# Altium footprint library CPAV.PcbLib: 150 footprints (part 8 of 10)
Each footprint in its own frame and in the unit in brackets; x right, y up, seen from the top. Pads: shape width x height; smd on the part's side, far side on the other; paste and mask are expansions set on the pad; w line width, h text height; cw(c..) or ccw(c..) is an arc to the next point about the centre after c.
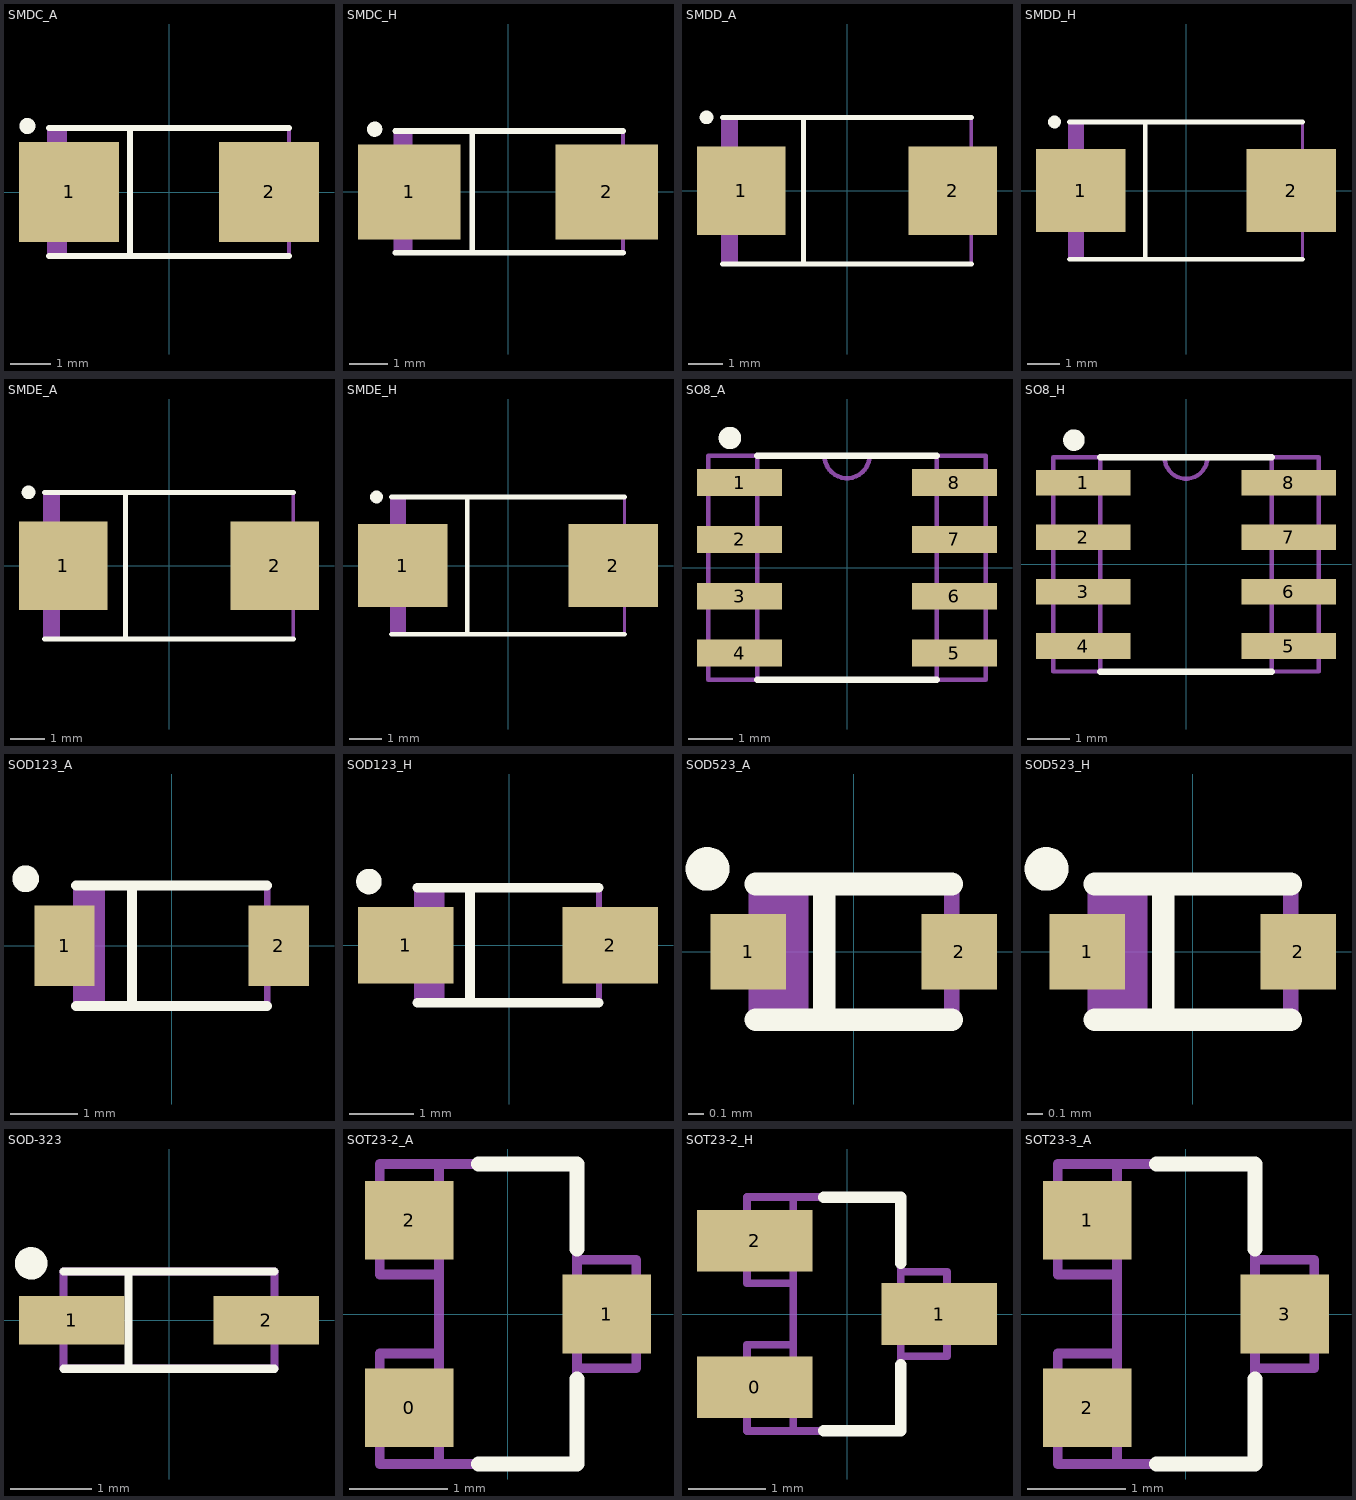
[diagram p7: the footprints below, top view; thin cyan lines are the x and y axes]

## SMDC_A [mm]
height 2.5
pads (2):
  rect 2.5x2.5 smd: 1(-2.5,0) 2(2.5,0)
Top Overlay:
  circle w0.2: c-3.54,1.65 r0.1
  lines w0.15: -3,-1.6 3,-1.6 ; -3,1.6 3,1.6 ; -0.97,-1.6 -0.97,1.6
Mechanical 7:
  lines w0.1: -2.9,-1.6 -2.9,1.6 ; -2.8,-1.6 -2.8,1.6 ; -2.7,-1.6 -2.7,1.6 ; -2.6,-1.6 -2.6,1.6 ; -3,-1.6 -3,1.6 3,1.6 3,-1.6 -3,-1.6
Mechanical 10:
  text ".Comment" at -0.47,-2.28 h0.6
  text ".Designator" at -0.6,1.87 h0.8
3D body: height 2.5, standoff 0, extent -3,-1.6 3,1.6

## SMDC_H [mm]
height 2.5
pads (2):
  rect 2.7x2.5 smd: 1(-2.6,0) 2(2.6,0)
Top Overlay:
  circle w0.2: c-3.51,1.65 r0.1
  lines w0.15: -2.97,-1.6 3.03,-1.6 ; -2.97,1.6 3.03,1.6 ; -0.94,-1.6 -0.94,1.6
Mechanical 7:
  lines w0.1: -2.87,-1.6 -2.87,1.6 ; -2.77,-1.6 -2.77,1.6 ; -2.67,-1.6 -2.67,1.6 ; -2.57,-1.6 -2.57,1.6 ; -2.97,-1.6 3.03,-1.6 3.03,1.6 -2.97,1.6 -2.97,-1.6
Mechanical 10:
  text ".Designator" at -0.6,1.89 h0.8
  text ".Comment" at -0.7,-2.3 h0.6
3D body: height 2.5, standoff 0, extent -2.97,-1.6 3.03,1.6

## SMDD_A [mm]
height 2.8
pads (2):
  rect 2.6x2.6 smd: 1(-3.1,0) 2(3.1,0)
Top Overlay:
  circle w0.2: c-4.12,2.15 r0.1
  lines w0.15: -3.65,-2.15 3.65,-2.15 ; -3.65,2.15 3.65,2.15 ; -1.28,-2.15 -1.28,2.15
Mechanical 7:
  lines w0.1: -3.55,-2.15 -3.55,2.15 ; -3.45,-2.15 -3.45,2.15 ; -3.35,-2.15 -3.35,2.15 ; -3.25,-2.15 -3.25,2.15 ; -3.65,-2.15 -3.65,2.15 3.65,2.15 3.65,-2.15 -3.65,-2.15
Mechanical 10:
  text ".Comment" at -0.9,-2.91 h0.6
  text ".Designator" at -0.84,2.54 h0.8
3D body: height 2.8, standoff 0, extent -3.65,-2.15 3.65,2.15

## SMDD_H [mm]
height 2.8
pads (2):
  rect 2.8x2.6 smd: 1(-3.3,0) 2(3.3,0)
Top Overlay:
  circle w0.2: c-4.12,2.15 r0.1
  lines w0.15: -3.65,-2.15 3.65,-2.15 ; -3.65,2.15 3.65,2.15 ; -1.28,-2.15 -1.28,2.15
Mechanical 7:
  lines w0.1: -3.55,-2.15 -3.55,2.15 ; -3.45,-2.15 -3.45,2.15 ; -3.35,-2.15 -3.35,2.15 ; -3.25,-2.15 -3.25,2.15 ; -3.65,-2.15 -3.65,2.15 3.65,2.15 3.65,-2.15 -3.65,-2.15
Mechanical 10:
  text ".Comment" at -0.83,-2.85 h0.6
  text ".Designator" at -0.84,2.54 h0.8
3D body: height 2.8, standoff 0, extent -3.65,-2.15 3.65,2.15

## SMDE_A [mm]
height 4
pads (2):
  rect 2.6x2.6 smd: 1(-3.1,0) 2(3.1,0)
Top Overlay:
  circle w0.2: c-4.12,2.15 r0.1
  lines w0.15: -3.65,-2.15 3.65,-2.15 ; -3.65,2.15 3.65,2.15 ; -1.28,-2.15 -1.28,2.15
Mechanical 7:
  lines w0.1: -3.55,-2.15 -3.55,2.15 ; -3.45,-2.15 -3.45,2.15 ; -3.35,-2.15 -3.35,2.15 ; -3.25,-2.15 -3.25,2.15 ; -3.65,-2.15 3.65,-2.15 3.65,2.15 -3.65,2.15 -3.65,-2.15
Mechanical 10:
  text ".Designator" at -0.84,2.54 h0.8
  text ".Comment" at -0.78,-2.82 h0.6
3D body: height 4, standoff 0, extent -3.65,-2.15 3.65,2.15

## SMDE_H [mm]
height 4
pads (2):
  rect 2.8x2.6 smd: 1(-3.3,0) 2(3.3,0)
Top Overlay:
  circle w0.2: c-4.12,2.15 r0.1
  lines w0.15: -3.65,-2.15 3.65,-2.15 ; -3.65,2.15 3.65,2.15 ; -1.28,-2.15 -1.28,2.15
Mechanical 7:
  lines w0.1: -3.55,-2.15 -3.55,2.15 ; -3.45,-2.15 -3.45,2.15 ; -3.35,-2.15 -3.35,2.15 ; -3.25,-2.15 -3.25,2.15 ; -3.65,-2.15 3.65,-2.15 3.65,2.15 -3.65,2.15 -3.65,-2.15
Mechanical 10:
  text ".Designator" at -0.84,2.54 h0.8
  text ".Comment" at -0.82,-2.87 h0.6
3D body: height 4, standoff 0, extent -3.65,-2.15 3.65,2.15

## SO8_A [mm]
height 1.75
pads (8):
  rect 1.9x0.6 smd: 1(-2.4,1.905) 2(-2.4,0.635) 3(-2.4,-0.635) 4(-2.4,-1.905) 5(2.4,-1.905) 6(2.4,-0.635) 7(2.4,0.635) 8(2.4,1.905)
Top Overlay:
  circle w0.25: c-2.615,2.9 r0.125
  lines w0.15: -2,-2.5 2,-2.5 ; -2,2.5 2,2.5
Mechanical 7:
  lines w0.1: -2,-2.5 -2,2.5 ; -0.5,2.5 ccw(c0,2.5) 0.5,2.5 ; 2,-2.5 2,2.5 ; -3.1,-2.5 3.1,-2.5 3.1,2.5 -3.1,2.5 -3.1,-2.5
Mechanical 10:
  text ".Comment" at -0.69,-3.25 h0.6
  text ".Designator" at -1,3.02 h0.8
3D body: height 1, standoff 0, extent 2,-2.5 3.1,2.5
3D body: height 1, standoff 0, extent -3.1,-2.5 -2,2.5
3D body: height 1.75, standoff 0, extent -2,-2.5 2,2.5

## SO8_H [mm]
height 1.75
pads (8):
  rect 2.2x0.6 smd: 1(-2.4,1.905) 2(-2.4,0.635) 3(-2.4,-0.635) 4(-2.4,-1.905) 5(2.4,-1.905) 6(2.4,-0.635) 7(2.4,0.635) 8(2.4,1.905)
Top Overlay:
  circle w0.25: c-2.615,2.9 r0.125
  lines w0.15: -2,-2.5 2,-2.5 ; -2,2.5 2,2.5
Mechanical 7:
  lines w0.1: -2,-2.5 -2,2.5 ; -0.5,2.5 ccw(c0,2.5) 0.5,2.5 ; 2,-2.5 2,2.5 ; -3.1,-2.5 3.1,-2.5 3.1,2.5 -3.1,2.5 -3.1,-2.5
Mechanical 10:
  text ".Comment" at -0.69,-3.25 h0.6
  text ".Designator" at -1,3.02 h0.8
3D body: height 1, standoff 0, extent 2,-2.5 3.1,2.5
3D body: height 1, standoff 0, extent -3.1,-2.5 -2,2.5
3D body: height 1.75, standoff 0, extent -2,-2.5 2,2.5

## SOD123_A [mm]
height 1.35
pads (2):
  rect 0.9x1.2 smd: 1(-1.6,0) 2(1.6,0)
Top Overlay:
  circle w0.2: c-2.18,1 r0.1
  lines w0.15: -1.425,-0.9 1.425,-0.9 ; -1.425,0.9 1.425,0.9 ; -0.595,-0.9 -0.595,0.9
Mechanical 7:
  lines w0.1: -1.425,-0.35 -1.925,-0.35 -1.925,0.35 -1.425,0.35 ; -1.33,-0.9 -1.33,0.9 ; -1.235,-0.9 -1.235,0.9 ; -1.14,-0.9 -1.14,0.9 ; -1.045,-0.9 -1.045,0.9 ; 1.425,-0.35 1.925,-0.35 1.925,0.35 1.425,0.35 ; -1.425,-0.9 1.425,-0.9 1.425,0.9 -1.425,0.9 -1.425,-0.9
Mechanical 10:
  text ".Comment" at -0.91,-1.44 h0.6
  text ".Designator" at -0.95,1.21 h0.8
3D body: height 1.35, standoff 0, extent -1.425,-0.9 1.425,0.9
3D body: height 0.5, standoff 0, extent -1.925,-0.35 -1.425,0.35
3D body: height 0.5, standoff 0, extent 1.425,-0.35 1.925,0.35

## SOD123_H [mm]
height 1.35
pads (2):
  rect 1.5x1.2 smd: 1(-1.62,0) 2(1.58,0)
Top Overlay:
  circle w0.2: c-2.2,1 r0.1
  lines w0.15: -1.445,-0.9 1.405,-0.9 ; -1.445,0.9 1.405,0.9 ; -0.615,-0.9 -0.615,0.9
Mechanical 7:
  lines w0.1: -1.445,-0.35 -1.945,-0.35 -1.945,0.35 -1.445,0.35 ; -1.35,-0.9 -1.35,0.9 ; -1.255,-0.9 -1.255,0.9 ; -1.16,-0.9 -1.16,0.9 ; -1.065,-0.9 -1.065,0.9 ; 1.405,-0.35 1.905,-0.35 1.905,0.35 1.405,0.35 ; -1.445,-0.9 -1.445,0.9 1.405,0.9 1.405,-0.9 -1.445,-0.9
Mechanical 10:
  text ".Comment" at -0.99,-1.44 h0.6
  text ".Designator" at -0.94,1.2 h0.8
3D body: height 1.35, standoff 0, extent -1.425,-0.9 1.425,0.9
3D body: height 0.5, standoff 0, extent -1.925,-0.35 -1.425,0.35
3D body: height 0.5, standoff 0, extent 1.425,-0.35 1.925,0.35

## SOD523_A [mm]
height 0.7
pads (2):
  rect 0.5x0.5 smd: 1(-0.7,0) 2(0.7,0)
Top Overlay:
  circle w0.15: c-0.97,0.55 r0.07
  lines w0.15: -0.65,-0.45 0.65,-0.45 ; -0.65,0.45 0.65,0.45 ; -0.195,-0.45 -0.195,0.45
Mechanical 7:
  lines w0.1: -0.65,-0.175 -0.85,-0.175 -0.85,0.175 -0.65,0.175 ; -0.55,-0.45 -0.55,0.45 ; -0.45,-0.45 -0.45,0.45 ; -0.35,-0.45 -0.35,0.45 ; 0.65,-0.175 0.85,-0.175 0.85,0.175 0.65,0.175 ; -0.65,-0.45 -0.65,0.45 0.65,0.45 0.65,-0.45 -0.65,-0.45
Mechanical 10:
  text ".Comment" at -0.775,-1.025 h0.6
  text ".Designator" at -0.225,0.775 h0.8
3D body: height 0.7, standoff 0, extent -0.65,-0.45 0.65,0.45
3D body: height 0.2, standoff 0, extent -0.85,-0.175 -0.65,0.175
3D body: height 0.2, standoff 0, extent 0.65,-0.175 0.85,0.175

## SOD523_H [mm]
height 0.7
pads (2):
  rect 0.5x0.5 smd: 1(-0.7,0) 2(0.7,0)
Top Overlay:
  circle w0.15: c-0.97,0.55 r0.07
  lines w0.15: -0.65,-0.45 0.65,-0.45 ; -0.65,0.45 0.65,0.45 ; -0.195,-0.45 -0.195,0.45
Mechanical 7:
  lines w0.1: -0.65,-0.175 -0.85,-0.175 -0.85,0.175 -0.65,0.175 ; -0.55,-0.45 -0.55,0.45 ; -0.45,-0.45 -0.45,0.45 ; -0.35,-0.45 -0.35,0.45 ; 0.65,-0.175 0.85,-0.175 0.85,0.175 0.65,0.175 ; -0.65,-0.45 -0.65,0.45 0.65,0.45 0.65,-0.45 -0.65,-0.45
Mechanical 10:
  text ".Comment" at -0.775,-1.025 h0.6
  text ".Designator" at -0.225,0.775 h0.8
3D body: height 0.7, standoff 0, extent -0.65,-0.45 0.65,0.45
3D body: height 0.2, standoff 0, extent -0.85,-0.175 -0.65,0.175
3D body: height 0.2, standoff 0, extent 0.65,-0.175 0.85,0.175

## SOD-323 [mm]
pads (2):
  rect 1.3x0.6 smd: 1(-1.2,0) 2(1.2,0)
Top Overlay:
  circle w0.2: c-1.7,0.7 r0.1
  lines w0.1: -1.3,-0.6 1.3,-0.6 ; -1.3,0.6 1.3,0.6 ; -0.5,-0.6 -0.5,0.6
Mechanical 7:
  lines w0.1: -1.3,-0.6 -1.3,0.6 1.3,0.6 1.3,-0.6 -1.3,-0.6
Mechanical 10:
  text ".Comment" at -0.96,-1.55 h0.6
  text ".Designator" at -1,1.1 h0.8
3D body: height 1.13, standoff 0.1, extent -0.8,-0.6 0.8,0.6
3D body: height 0.3, standoff 0, extent -1.3,-0.2 -0.8,0.2
3D body: height 0.3, standoff 0, extent 0.8,-0.2 1.3,0.2

## SOT23-2_A [mm]
height 1.12
pads (3):
  rect 0.9x0.8 smd: 0(-1,-0.95) 1(1,0) 2(-1,0.95)
Top Overlay:
  lines w0.15: -0.3,-1.52 0.7,-1.52 0.7,-0.66 ; -0.3,1.52 0.7,1.52 0.7,0.66
Mechanical 7:
  lines w0.1: -0.7,-1.52 -0.7,1.52 ; -0.7,-0.4 -1.3,-0.4 -1.3,-1.52 0.7,-1.52 0.7,1.52 -1.3,1.52 -1.3,0.4 -0.7,0.4 ; 0.7,-0.55 1.3,-0.55 1.3,0.55 0.7,0.55
Mechanical 10:
  text ".Designator" at -0.71,1.79 h0.8
  text ".Comment" at -0.73,-2.2 h0.6
3D body: height 1.12, standoff 0, extent -0.7,-1.52 0.7,1.52
3D body: height 0.5, standoff 0, extent -1.3,0.4 -0.7,1.52
3D body: height 0.5, standoff 0, extent -1.3,-1.52 -0.7,-0.4
3D body: height 0.5, standoff 0, extent 0.7,-0.55 1.3,0.55

## SOT23-2_H [mm]
height 1.12
pads (3):
  rect 1.5x0.8 smd: 0(-1.2,-0.95) 1(1.2,0) 2(-1.2,0.95)
Top Overlay:
  lines w0.15: -0.3,-1.52 0.7,-1.52 0.7,-0.66 ; -0.3,1.52 0.7,1.52 0.7,0.66
Mechanical 7:
  lines w0.1: -0.7,-1.52 -0.7,1.52 ; -0.7,-0.4 -1.3,-0.4 -1.3,-1.52 0.7,-1.52 0.7,1.52 -1.3,1.52 -1.3,0.4 -0.7,0.4 ; 0.7,-0.55 1.3,-0.55 1.3,0.55 0.7,0.55
Mechanical 10:
  text ".Designator" at -0.71,1.79 h0.8
  text ".Comment" at -0.74,-2.17 h0.6
3D body: height 1.12, standoff 0, extent -0.7,-1.52 0.7,1.52
3D body: height 0.5, standoff 0, extent -1.3,0.4 -0.7,1.52
3D body: height 0.5, standoff 0, extent -1.3,-1.52 -0.7,-0.4
3D body: height 0.5, standoff 0, extent 0.7,-0.55 1.3,0.55

## SOT23-3_A [mm]
height 1.12
pads (3):
  rect 0.9x0.8 smd: 1(-1,0.95) 2(-1,-0.95) 3(1,0)
Top Overlay:
  lines w0.15: -0.3,-1.52 0.7,-1.52 0.7,-0.66 ; -0.3,1.52 0.7,1.52 0.7,0.66
Mechanical 7:
  lines w0.1: -0.7,-1.52 -0.7,1.52 ; -0.7,-0.4 -1.3,-0.4 -1.3,-1.52 0.7,-1.52 0.7,1.52 -1.3,1.52 -1.3,0.4 -0.7,0.4 ; 0.7,-0.55 1.3,-0.55 1.3,0.55 0.7,0.55
Mechanical 10:
  text ".Designator" at -0.71,1.79 h0.8
  text ".Comment" at -0.73,-2.2 h0.6
3D body: height 1.12, standoff 0, extent -0.7,-1.52 0.7,1.52
3D body: height 0.5, standoff 0, extent -1.3,0.4 -0.7,1.52
3D body: height 0.5, standoff 0, extent -1.3,-1.52 -0.7,-0.4
3D body: height 0.5, standoff 0, extent 0.7,-0.55 1.3,0.55